# Altium footprint library 613 0xx 243 121.PcbLib: 23 footprints (part 1 of 2)
Each footprint in its own frame and in the unit in brackets; x right, y up, seen from the top. Pads: shape width x height; smd on the part's side, far side on the other; paste and mask are expansions set on the pad; w line width, h text height; cw(c..) or ccw(c..) is an arc to the next point about the centre after c.
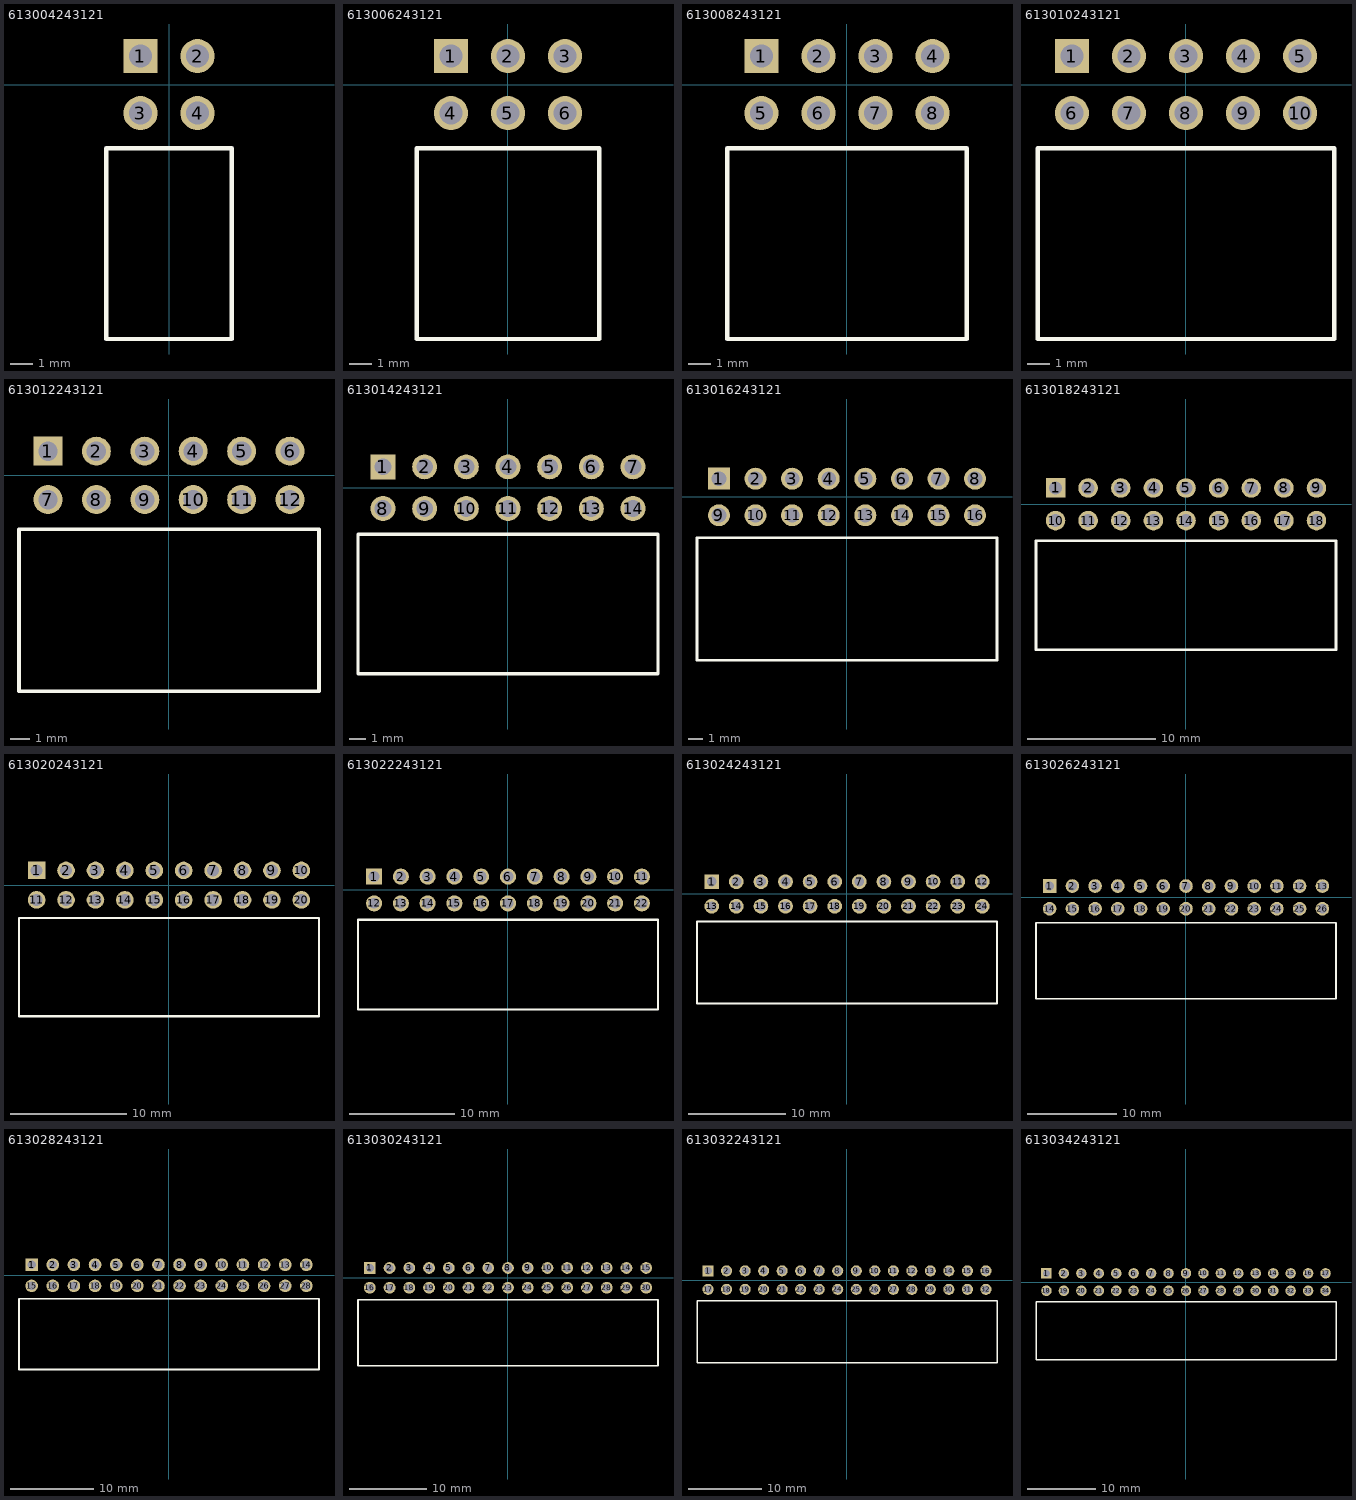
[diagram p0: the footprints below, top view; thin cyan lines are the x and y axes]

## 613004243121 [mm] "04p 2 rows Right angle"
height 5.08
pads (4):
  rect 1.52x1.52 hole 1.02: 1(-1.27,1.27)
  round 1.52 hole 1.02: 2(1.27,1.27) 3(-1.27,-1.27) 4(1.27,-1.27)
Top Overlay:
  lines w0.2: -2.79,-11.33 2.79,-11.33 2.79,-2.83 -2.79,-2.83 -2.79,-11.33
3D body "613004243121.stp": height 5.05, standoff -3.25, extent -2.79,-11.33 2.79,1.27

## 613006243121 [mm] "06p 2 rows Right angle"
height 5.08
pads (6):
  rect 1.52x1.52 hole 1.02: 1(-2.54,1.27)
  round 1.52 hole 1.02: 2(0,1.27) 3(2.54,1.27) 4(-2.54,-1.27) 5(0,-1.27) 6(2.54,-1.27)
Top Overlay:
  lines w0.2: -4.06,-11.33 4.06,-11.33 4.06,-2.83 -4.06,-2.83 -4.06,-11.33
3D body "613006243121.stp": height 5.05, standoff -3.25, extent -4.06,-11.33 4.06,1.27

## 613008243121 [mm] "08p 2 rows Right angle"
height 5.08
pads (8):
  rect 1.52x1.52 hole 1.02: 1(-3.81,1.27)
  round 1.52 hole 1.02: 2(-1.27,1.27) 3(1.27,1.27) 4(3.81,1.27) 5(-3.81,-1.27) 6(-1.27,-1.27) 7(1.27,-1.27) 8(3.81,-1.27)
Top Overlay:
  lines w0.2: -5.33,-11.33 5.33,-11.33 5.33,-2.83 -5.33,-2.83 -5.33,-11.33
3D body "613008243121.stp": height 5.05, standoff -3.25, extent -5.33,-11.33 5.33,1.27

## 613010243121 [mm] "10p 2 rows Right angle"
height 5.08
pads (10):
  rect 1.52x1.52 hole 1.02: 1(-5.08,1.27)
  round 1.52 hole 1.02: 2(-2.54,1.27) 3(0,1.27) 4(2.54,1.27) 5(5.08,1.27) 6(-5.08,-1.27) 7(-2.54,-1.27) 8(0,-1.27) 9(2.54,-1.27) 10(5.08,-1.27)
Top Overlay:
  lines w0.2: -6.6,-11.33 -6.6,-2.83 6.6,-2.83 6.6,-11.33 -6.6,-11.33
3D body "613010243121.stp": height 5.05, standoff -3.25, extent -6.6,-11.33 6.6,1.27

## 613012243121 [mm] "12p 2 rows Right angle"
height 5.08
pads (12):
  rect 1.52x1.52 hole 1.02: 1(-6.35,1.27)
  round 1.52 hole 1.02: 2(-3.81,1.27) 3(-1.27,1.27) 4(1.27,1.27) 5(3.81,1.27) 6(6.35,1.27) 7(-6.35,-1.27) 8(-3.81,-1.27) 9(-1.27,-1.27) 10(1.27,-1.27) 11(3.81,-1.27) 12(6.35,-1.27)
Top Overlay:
  lines w0.2: -7.87,-11.33 7.87,-11.33 7.87,-2.83 -7.87,-2.83 -7.87,-11.33
3D body "613012243121.stp": height 5.05, standoff -3.25, extent -7.87,-11.33 7.87,1.27

## 613014243121 [mm] "14p 2 rows Right angle"
height 5.08
pads (14):
  rect 1.52x1.52 hole 1.02: 1(-7.62,1.27)
  round 1.52 hole 1.02: 2(-5.08,1.27) 3(-2.54,1.27) 4(0,1.27) 5(2.54,1.27) 6(5.08,1.27) 7(7.62,1.27) 8(-7.62,-1.27) 9(-5.08,-1.27) 10(-2.54,-1.27) 11(0,-1.27) 12(2.54,-1.27) 13(5.08,-1.27) 14(7.62,-1.27)
Top Overlay:
  lines w0.2: -9.14,-11.33 9.14,-11.33 9.14,-2.83 -9.14,-2.83 -9.14,-11.33
3D body "613014243121.stp": height 5.05, standoff -3.25, extent -9.14,-11.33 9.14,1.27

## 613016243121 [mm] "16p 2 rows Right angle"
height 5.08
pads (16):
  rect 1.52x1.52 hole 1.02: 1(-8.89,1.27)
  round 1.52 hole 1.02: 2(-6.35,1.27) 3(-3.81,1.27) 4(-1.27,1.27) 5(1.27,1.27) 6(3.81,1.27) 7(6.35,1.27) 8(8.89,1.27) 9(-8.89,-1.27) 10(-6.35,-1.27) 11(-3.81,-1.27) 12(-1.27,-1.27) 13(1.27,-1.27) 14(3.81,-1.27) 15(6.35,-1.27) 16(8.89,-1.27)
Top Overlay:
  lines w0.2: -10.41,-11.33 -10.41,-2.83 10.41,-2.83 10.41,-11.33 -10.41,-11.33
3D body "613016243121.stp": height 5.05, standoff -3.25, extent -10.41,-11.33 10.41,1.27

## 613018243121 [mm] "18p 2 rows Right angle"
height 5.08
pads (18):
  rect 1.52x1.52 hole 1.02: 1(-10.16,1.27)
  round 1.52 hole 1.02: 2(-7.62,1.27) 3(-5.08,1.27) 4(-2.54,1.27) 5(0,1.27) 6(2.54,1.27) 7(5.08,1.27) 8(7.62,1.27) 9(10.16,1.27) 10(-10.16,-1.27) 11(-7.62,-1.27) 12(-5.08,-1.27) 13(-2.54,-1.27) 14(0,-1.27) 15(2.54,-1.27) 16(5.08,-1.27) 17(7.62,-1.27) 18(10.16,-1.27)
Top Overlay:
  lines w0.2: -11.68,-11.33 -11.68,-2.83 11.68,-2.83 11.68,-11.33 -11.68,-11.33
3D body "613018243121.stp": height 5.05, standoff -3.25, extent -11.68,-11.33 11.68,1.27

## 613020243121 [mm] "20p 2 rows Right angle"
height 5.08
pads (20):
  rect 1.52x1.52 hole 1.02: 1(-11.43,1.27)
  round 1.52 hole 1.02: 2(-8.89,1.27) 3(-6.35,1.27) 4(-3.81,1.27) 5(-1.27,1.27) 6(1.27,1.27) 7(3.81,1.27) 8(6.35,1.27) 9(8.89,1.27) 10(11.43,1.27) 11(-11.43,-1.27) 12(-8.89,-1.27) 13(-6.35,-1.27) 14(-3.81,-1.27) 15(-1.27,-1.27) 16(1.27,-1.27) 17(3.81,-1.27) 18(6.35,-1.27) 19(8.89,-1.27) 20(11.43,-1.27)
Top Overlay:
  lines w0.2: -12.95,-11.33 12.95,-11.33 12.95,-2.83 -12.95,-2.83 -12.95,-11.33
3D body "613020243121.stp": height 5.05, standoff -3.25, extent -12.95,-11.33 12.95,1.27

## 613022243121 [mm] "22p 2 rows Right angle"
height 5.08
pads (22):
  rect 1.52x1.52 hole 1.02: 1(-12.7,1.27)
  round 1.52 hole 1.02: 2(-10.16,1.27) 3(-7.62,1.27) 4(-5.08,1.27) 5(-2.54,1.27) 6(0,1.27) 7(2.54,1.27) 8(5.08,1.27) 9(7.62,1.27) 10(10.16,1.27) 11(12.7,1.27) 12(-12.7,-1.27) 13(-10.16,-1.27) 14(-7.62,-1.27) 15(-5.08,-1.27) 16(-2.54,-1.27) 17(0,-1.27) 18(2.54,-1.27) 19(5.08,-1.27) 20(7.62,-1.27) 21(10.16,-1.27) 22(12.7,-1.27)
Top Overlay:
  lines w0.2: -14.22,-11.33 -14.22,-2.83 14.22,-2.83 14.22,-11.33 -14.22,-11.33
3D body "613022243121.stp": height 5.05, standoff -3.25, extent -14.22,-11.33 14.22,1.27

## 613024243121 [mm] "24p 2 rows Right angle"
height 5.08
pads (24):
  rect 1.52x1.52 hole 1.02: 1(-13.97,1.27)
  round 1.52 hole 1.02: 2(-11.43,1.27) 3(-8.89,1.27) 4(-6.35,1.27) 5(-3.81,1.27) 6(-1.27,1.27) 7(1.27,1.27) 8(3.81,1.27) 9(6.35,1.27) 10(8.89,1.27) 11(11.43,1.27) 12(13.97,1.27) 13(-13.97,-1.27) 14(-11.43,-1.27) 15(-8.89,-1.27) 16(-6.35,-1.27) 17(-3.81,-1.27) 18(-1.27,-1.27) 19(1.27,-1.27) 20(3.81,-1.27) 21(6.35,-1.27) 22(8.89,-1.27) 23(11.43,-1.27) 24(13.97,-1.27)
Top Overlay:
  lines w0.2: -15.49,-11.33 -15.49,-2.83 15.49,-2.83 15.49,-11.33 -15.49,-11.33
3D body "613024243121.stp": height 5.05, standoff -3.25, extent -15.49,-11.33 15.49,1.27

## 613026243121 [mm] "26p 2 rows Right angle"
height 5.08
pads (26):
  rect 1.52x1.52 hole 1.02: 1(-15.24,1.27)
  round 1.52 hole 1.02: 2(-12.7,1.27) 3(-10.16,1.27) 4(-7.62,1.27) 5(-5.08,1.27) 6(-2.54,1.27) 7(0,1.27) 8(2.54,1.27) 9(5.08,1.27) 10(7.62,1.27) 11(10.16,1.27) 12(12.7,1.27) 13(15.24,1.27) 14(-15.24,-1.27) 15(-12.7,-1.27) 16(-10.16,-1.27) 17(-7.62,-1.27) 18(-5.08,-1.27) 19(-2.54,-1.27) 20(0,-1.27) 21(2.54,-1.27) 22(5.08,-1.27) 23(7.62,-1.27) 24(10.16,-1.27) 25(12.7,-1.27) 26(15.24,-1.27)
Top Overlay:
  lines w0.2: -16.76,-11.33 -16.76,-2.83 16.76,-2.83 16.76,-11.33 -16.76,-11.33
3D body "613026243121.stp": height 5.05, standoff -3.25, extent -16.76,-11.33 16.76,1.27

## 613028243121 [mm] "28p 2 rows Right angle"
height 5.08
pads (28):
  rect 1.52x1.52 hole 1.02: 1(-16.51,1.27)
  round 1.52 hole 1.02: 2(-13.97,1.27) 3(-11.43,1.27) 4(-8.89,1.27) 5(-6.35,1.27) 6(-3.81,1.27) 7(-1.27,1.27) 8(1.27,1.27) 9(3.81,1.27) 10(6.35,1.27) 11(8.89,1.27) 12(11.43,1.27) 13(13.97,1.27) 14(16.51,1.27) 15(-16.51,-1.27) 16(-13.97,-1.27) 17(-11.43,-1.27) 18(-8.89,-1.27) 19(-6.35,-1.27) 20(-3.81,-1.27) 21(-1.27,-1.27) 22(1.27,-1.27) 23(3.81,-1.27) 24(6.35,-1.27) 25(8.89,-1.27) 26(11.43,-1.27) 27(13.97,-1.27) 28(16.51,-1.27)
Top Overlay:
  lines w0.2: -18.03,-11.33 18.03,-11.33 18.03,-2.83 -18.03,-2.83 -18.03,-11.33
3D body "613028243121.stp": height 5.05, standoff -3.25, extent -18.03,-11.33 18.03,1.27

## 613030243121 [mm] "30p 2 rows Right angle"
height 5.08
pads (30):
  rect 1.52x1.52 hole 1.02: 1(-17.78,1.27)
  round 1.52 hole 1.02: 2(-15.24,1.27) 3(-12.7,1.27) 4(-10.16,1.27) 5(-7.62,1.27) 6(-5.08,1.27) 7(-2.54,1.27) 8(0,1.27) 9(2.54,1.27) 10(5.08,1.27) 11(7.62,1.27) 12(10.16,1.27) 13(12.7,1.27) 14(15.24,1.27) 15(17.78,1.27) 16(-17.78,-1.27) 17(-15.24,-1.27) 18(-12.7,-1.27) 19(-10.16,-1.27) 20(-7.62,-1.27) 21(-5.08,-1.27) 22(-2.54,-1.27) 23(0,-1.27) 24(2.54,-1.27) 25(5.08,-1.27) 26(7.62,-1.27) 27(10.16,-1.27) 28(12.7,-1.27) 29(15.24,-1.27) 30(17.78,-1.27)
Top Overlay:
  lines w0.2: -19.3,-11.33 19.3,-11.33 19.3,-2.83 -19.3,-2.83 -19.3,-11.33
3D body "613030243121.stp": height 5.05, standoff -3.25, extent -19.3,-11.33 19.3,1.27

## 613032243121 [mm] "32p 2 rows Right angle"
height 5.08
pads (32):
  rect 1.52x1.52 hole 1.02: 1(-19.05,1.27)
  round 1.52 hole 1.02: 2(-16.51,1.27) 3(-13.97,1.27) 4(-11.43,1.27) 5(-8.89,1.27) 6(-6.35,1.27) 7(-3.81,1.27) 8(-1.27,1.27) 9(1.27,1.27) 10(3.81,1.27) 11(6.35,1.27) 12(8.89,1.27) 13(11.43,1.27) 14(13.97,1.27) 15(16.51,1.27) 16(19.05,1.27) 17(-19.05,-1.27) 18(-16.51,-1.27) 19(-13.97,-1.27) 20(-11.43,-1.27) 21(-8.89,-1.27) 22(-6.35,-1.27) 23(-3.81,-1.27) 24(-1.27,-1.27) 25(1.27,-1.27) 26(3.81,-1.27) 27(6.35,-1.27) 28(8.89,-1.27) 29(11.43,-1.27) 30(13.97,-1.27) 31(16.51,-1.27) 32(19.05,-1.27)
Top Overlay:
  lines w0.2: -20.57,-11.33 20.57,-11.33 20.57,-2.83 -20.57,-2.83 -20.57,-11.33
3D body "613032243121.stp": height 5.05, standoff -3.25, extent -20.57,-11.33 20.57,1.27

## 613034243121 [mm] "34p 2 rows Right angle"
height 5.08
pads (34):
  rect 1.52x1.52 hole 1.02: 1(-20.32,1.27)
  round 1.52 hole 1.02: 2(-17.78,1.27) 3(-15.24,1.27) 4(-12.7,1.27) 5(-10.16,1.27) 6(-7.62,1.27) 7(-5.08,1.27) 8(-2.54,1.27) 9(0,1.27) 10(2.54,1.27) 11(5.08,1.27) 12(7.62,1.27) 13(10.16,1.27) 14(12.7,1.27) 15(15.24,1.27) 16(17.78,1.27) 17(20.32,1.27) 18(-20.32,-1.27) 19(-17.78,-1.27) 20(-15.24,-1.27) 21(-12.7,-1.27) 22(-10.16,-1.27) 23(-7.62,-1.27) 24(-5.08,-1.27) 25(-2.54,-1.27) 26(0,-1.27) 27(2.54,-1.27) 28(5.08,-1.27) 29(7.62,-1.27) 30(10.16,-1.27) 31(12.7,-1.27) 32(15.24,-1.27) 33(17.78,-1.27) 34(20.32,-1.27)
Top Overlay:
  lines w0.2: -21.84,-11.33 -21.84,-2.83 21.84,-2.83 21.84,-11.33 -21.84,-11.33
3D body "613034243121.stp": height 5.05, standoff -3.25, extent -21.84,-11.33 21.84,1.27